# EAGLE library part NRF24L01P (library isystems)
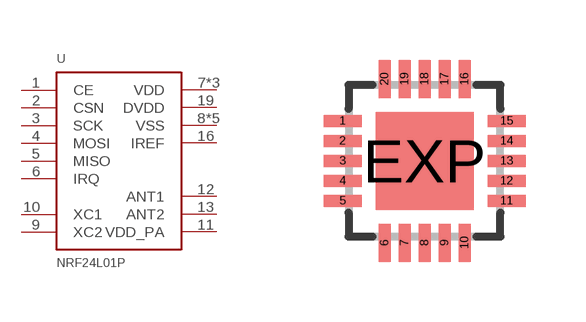
[diagram p6: symbol with the pads of QFN20; footprint QFN20]

Designator prefix U

## NRF24L01P  [QFN20]
1  CE
2  CSN
3  SCK
4  MOSI
5  MISO
6  IRQ
7  VDD  pwr
8  VSS  pwr
9  XC2
10  XC1
11  VDD_PA  pwr
12  ANT1
13  ANT2
14  VSS  pwr
15  VDD  pwr
16  IREF
17  VSS  pwr
18  VDD  pwr
19  DVDD  pwr
20  VSS  pwr
EXP  VSS  pwr

## Footprint QFN20 (pad centres in mm)
ES Package, 20-Contact QFN with Exposed Thermal Pad Data sheet <http://www.allegromicro.com/en/Products/Part_Numbers/3906/3906.pdf>
smd 0.95 x 0.3: 1 -2.05,1; 2 -2.05,0.5; 3 -2.05,0; 4 -2.05,-0.5; 5 -2.05,-1; 11 2.05,-1; 12 2.05,-0.5; 13 2.05,0; 14 2.05,0.5; 15 2.05,1
smd 0.3 x 0.95: 6 -1,-2.05; 7 -0.5,-2.05; 8 0,-2.05; 9 0.5,-2.05; 10 1,-2.05; 16 1,2.05; 17 0.5,2.05; 18 0,2.05; 19 -0.5,2.05; 20 -1,2.05
smd 2.45 x 2.45: EXP 0,0